# Altium schematic symbol library Relay_SSR.SchLib: 1 symbol
Pins are listed as number, name and electrical type; pins without a type are passive.

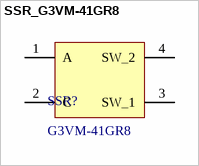
[diagram p0: symbol SSR_G3VM-41GR8]

## SSR_G3VM-41GR8
designator SSR?, comment G3VM-41GR8
opto isolated SSR bidirectional mosfet relay; Supplier 1: Farnell; Supplier Part Number 1: 2065749
footprint G3VM-41GR8 (SOP, 4-Leads, Body 3.90x4.40mm, Pitch 2.54mm, IPC Medium Density)
pins: 1 A, 2 C, 3 SW_1, 4 SW_2